# Altium integrated library SparkFun-IC-Memory.IntLib: 7 symbols
Pins are listed as number, name and electrical type; pins without a type are passive.

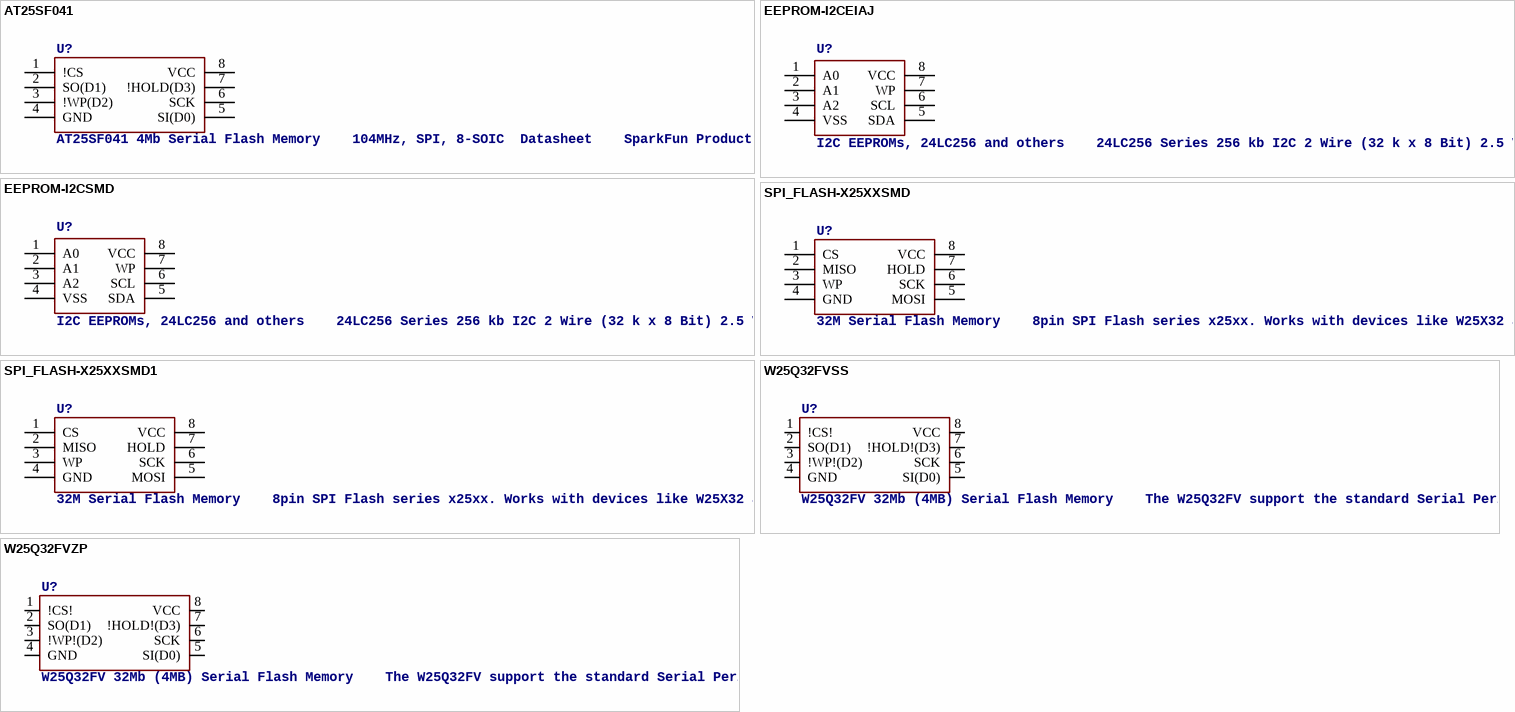
[diagram p0: symbols AT25SF041 to W25Q32FVZP]

## AT25SF041
designator U?, comment AT25SF041 4Mb Serial Flash Memory    104MHz, SPI, 8-SOIC  Datasheet    SparkFun Products: SparkFun ESP8266 Thing  SparkFun ESP8266 Thing - Dev Board
PROD_ID: IC-12455
footprint SO08
pins: 1 !CS, 2 SO(D1), 3 !WP(D2), 4 GND, 5 SI(D0), 6 SCK, 7 !HOLD(D3), 8 VCC

## EEPROM-I2CEIAJ
designator U?, comment I2C EEPROMs, 24LC256 and others    24LC256 Series 256 kb I2C 2 Wire (32 k x 8 Bit) 2.5 V Serial EEPROM SMD - SOIC-8    Datasheet SparkFun Products  SparkFun UDB5 - PIC UAV Development Board (GPS-11703)
PROD_ID: NA-XXXXX
footprint SO08-EIAJ
pins: 1 A0, 2 A1, 3 A2, 4 VSS (power), 5 SDA, 6 SCL, 7 WP, 8 VCC (power)

## EEPROM-I2CSMD
designator U?, comment I2C EEPROMs, 24LC256 and others    24LC256 Series 256 kb I2C 2 Wire (32 k x 8 Bit) 2.5 V Serial EEPROM SMD - SOIC-8    Datasheet SparkFun Products  SparkFun UDB5 - PIC UAV Development Board (GPS-11703)
PROD_ID: IC-09714
footprint SO08
pins: 1 A0, 2 A1, 3 A2, 4 VSS (power), 5 SDA, 6 SCL, 7 WP, 8 VCC (power)

## SPI_FLASH-X25XXSMD
designator U?, comment 32M Serial Flash Memory    8pin SPI Flash series x25xx. Works with devices like W25X32 and BR25L32 Datasheet  SparkFun Products  SparkFun Venus GPS Logger (GPS-10920)
PROD_ID: N/A
footprint SO08
pins: 1 CS, 2 MISO, 3 WP, 4 GND (power), 5 MOSI, 6 SCK, 7 HOLD, 8 VCC (power)

## SPI_FLASH-X25XXSMD1
designator U?, comment 32M Serial Flash Memory    8pin SPI Flash series x25xx. Works with devices like W25X32 and BR25L32 Datasheet  SparkFun Products  SparkFun Venus GPS Logger (GPS-10920)
PROD_ID: IC-09109
footprint SO08-EIAJ
pins: 1 CS, 2 MISO, 3 WP, 4 GND (power), 5 MOSI, 6 SCK, 7 HOLD, 8 VCC (power)

## W25Q32FVSS
designator U?, comment W25Q32FV 32Mb (4MB) Serial Flash Memory    The W25Q32FV support the standard Serial Peripheral Interface (SPI), Dual/Quad I/O SPI as  well as 2-clocks instruction cycle Quad Peripheral Interface (QPI).   104MHz, SPI, 8-SOIC-EIAJ   Datasheet SparkFun Products  SparkFun Blynk Board - ESP8266 (WRL-13794)
PROD_ID: IC-13229
footprint SOIC-8
pins: 1 !CS!, 2 SO(D1), 3 !WP!(D2), 4 GND, 5 SI(D0), 6 SCK, 7 !HOLD!(D3), 8 VCC

## W25Q32FVZP
designator U?, comment W25Q32FV 32Mb (4MB) Serial Flash Memory    The W25Q32FV support the standard Serial Peripheral Interface (SPI), Dual/Quad I/O SPI as  well as 2-clocks instruction cycle Quad Peripheral Interface (QPI).   104MHz, SPI, 8-SOIC-EIAJ   Datasheet SparkFun Products  SparkFun Blynk Board - ESP8266 (WRL-13794)
PROD_ID: NA-XXXXX
footprint WSON8-6X5MM
pins: 1 !CS!, 2 SO(D1), 3 !WP!(D2), 4 GND, 5 SI(D0), 6 SCK, 7 !HOLD!(D3), 8 VCC